# Altium footprint library Altium_Module.PcbLib: 3 footprints
Each footprint in its own frame and in the unit in brackets; x right, y up, seen from the top. Pads: shape width x height; smd on the part's side, far side on the other; paste and mask are expansions set on the pad; w line width, h text height; cw(c..) or ccw(c..) is an arc to the next point about the centre after c.
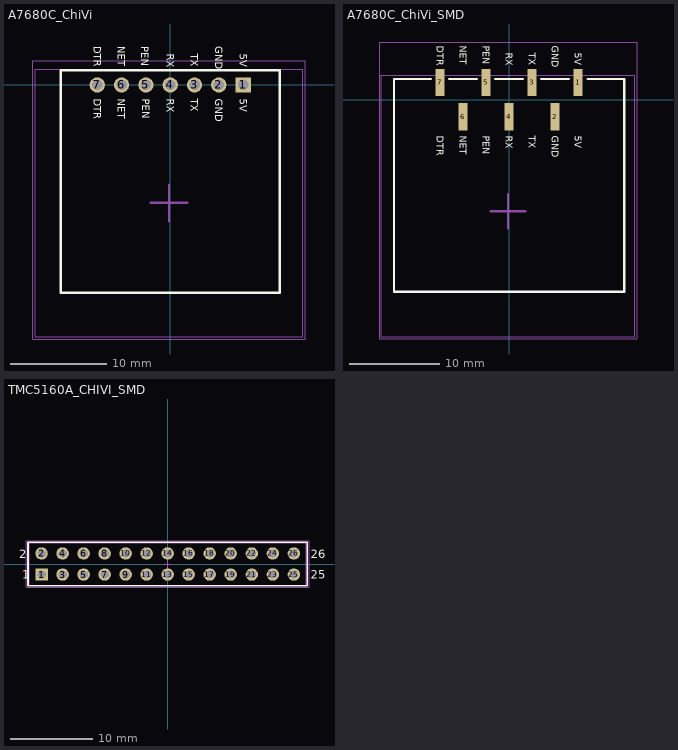
[diagram p0: the footprints below, top view; thin cyan lines are the x and y axes]

## A7680C_ChiVi [mm]
pads (7):
  rect 1.6x1.6 hole 1.1: 1(7.62,0)
  round 1.6 hole 1.1: 2(5.08,0) 3(2.54,0) 4(0,0) 5(-2.54,0) 6(-5.08,0) 7(-7.62,0)
Top Overlay:
  lines w0.254: -11.43,-21.717 -11.43,1.524 11.43,1.524 11.43,-21.717 -11.43,-21.717
  text "5V" at 7.239,-1.422 h0.76
  text "GND" at 4.699,-1.422 h0.76
  text "TX" at 2.159,-1.422 h0.76
  text "RX" at -0.381,-1.422 h0.76
  text "PEN" at -2.921,-1.422 h0.76
  text "NET" at -5.461,-1.422 h0.76
  text "DTR" at -8.001,-1.422 h0.76
  text "5V" at 7.239,3.277 h0.76
  text "TX" at 2.159,3.277 h0.76
  text "RX" at -0.381,3.277 h0.76
  text "NET" at -5.461,4.039 h0.76
  text "PEN" at -3.048,4.039 h0.76
  text "DTR" at -8.001,4.039 h0.76
  text "GND" at 4.699,4.039 h0.76
Top Designator:
  text ".Designator" at -7.625,-12.819 h1.5
Mechanical 13:
  lines w0.127: -14.097,-26.289 13.843,-26.289 13.843,1.651 -14.097,1.651 -14.097,-26.289
  text "NO COMP IN THIS ZONE" at -9.945,-9.398 h1.02
Mechanical 15:
  lines w0.127: -14.351,-26.543 -14.351,2.54 14.097,2.54 14.097,-26.543 -14.351,-26.543
  lines w0.254: -2.032,-12.319 1.778,-12.319 ; -0.127,-14.224 -0.127,-10.414
3D body "A7680C.step": height 6.29, standoff -5.9, extent -14.097,-26.289 13.843,1.651

## A7680C_ChiVi_SMD [mm]
pads (7):
  rect 1x3 smd: 1(7.62,1.9) 2(5.08,-1.9) 3(2.54,1.9) 4(0,-1.9) 5(-2.54,1.9) 6(-5.08,-1.9) 7(-7.62,1.9)
Top Overlay:
  lines w0.254: -8.636,2.286 -12.7,2.286 -12.7,-21.209 12.7,-21.209 12.7,2.286 8.636,2.286 ; -6.604,2.286 -3.556,2.286 ; -1.524,2.286 1.524,2.286 ; 3.556,2.286 6.604,2.286
  text "5V" at 7.239,5.166 h0.76
  text "GND" at 4.699,5.928 h0.76
  text "TX" at 2.159,5.166 h0.76
  text "RX" at -0.381,5.166 h0.76
  text "PEN" at -2.921,5.928 h0.76
  text "NET" at -5.461,5.928 h0.76
  text "DTR" at -8.001,5.928 h0.76
  text "5V" at 7.239,-3.978 h0.76
  text "GND" at 4.699,-3.978 h0.76
  text "TX" at 2.159,-3.978 h0.76
  text "RX" at -0.381,-3.978 h0.76
  text "PEN" at -2.921,-3.978 h0.76
  text "NET" at -5.461,-3.978 h0.76
  text "DTR" at -8.001,-3.978 h0.76
Top Designator:
  text ".Designator" at -7.625,-12.819 h1.5
Mechanical 13:
  lines w0.127: -14.097,-26.162 13.843,-26.162 13.843,2.667 -14.097,2.667 -14.097,-26.162
  text "NO COMP IN THIS ZONE" at -9.945,-9.652 h1.02
Mechanical 15:
  lines w0.127: -14.351,-26.416 -14.351,6.35 14.097,6.35 14.097,-26.416 -14.351,-26.416
  lines w0.254: -2.032,-12.319 1.778,-12.319 ; -0.127,-14.224 -0.127,-10.414
3D body "Header - SMD - Vertical - 7.stp": height 9.7, standoff 0, extent -8.89,-2.464 8.89,2.54
3D body "A7680C.step": height 8.12, standoff 2.4, extent -14.097,-26.162 13.843,1.778

## TMC5160A_CHIVI_SMD [mm] "Socket Header, Pitch 2.54 mm, THT, Vertical, dual row, 26p"
height 8.4
pads (26):
  rect 1.5x1.5 hole 1.02: 1(-15.24,-1.27)
  round 1.5 hole 1.02: 2(-15.24,1.27) 3(-12.7,-1.27) 4(-12.7,1.27) 5(-10.16,-1.27) 6(-10.16,1.27) 7(-7.62,-1.27) 8(-7.62,1.27) 9(-5.08,-1.27) 10(-5.08,1.27) 11(-2.54,-1.27) 12(-2.54,1.27) 13(0,-1.27) 14(0,1.27) 15(2.54,-1.27) 16(2.54,1.27) 17(5.08,-1.27) 18(5.08,1.27) 19(7.62,-1.27) 20(7.62,1.27) 21(10.16,-1.27) 22(10.16,1.27) 23(12.7,-1.27) 24(12.7,1.27) 25(15.24,-1.27) 26(15.24,1.27)
Top Overlay:
  lines w0.2: -16.885,-2.615 16.885,-2.615 16.885,2.615 -16.885,2.615 -16.885,-2.615
  text "25" at 17.27,-1.8 h1.02
  text "26" at 17.27,0.7 h1.02
  text "1" at -17.57,-1.8 h1.02
  text "2" at -17.97,0.7 h1.02
Mechanical 13:
  lines w0.1: -16.76,-2.54 -16.76,2.54 16.76,2.54 16.76,-2.54 -16.76,-2.54
Mechanical 15:
  lines w0.05: -0.5,0 0.5,0 ; 0,-0.5 0,0.5 ; -17.085,-2.815 -17.085,2.815 17.085,2.815 17.085,-2.815 -17.085,-2.815
3D body "61302621821.stp": height 8.45, standoff -3.05, extent -16.76,-2.54 16.76,2.54
3D body "Step_Driver_Hardware.step": height 68.83, standoff 2.95, extent -73.072,-5.969 19.224,7.981